# Altium integrated library Wuerth Elektronik EMC Ferrite.IntLib: 193 symbols (part 3 of 3)
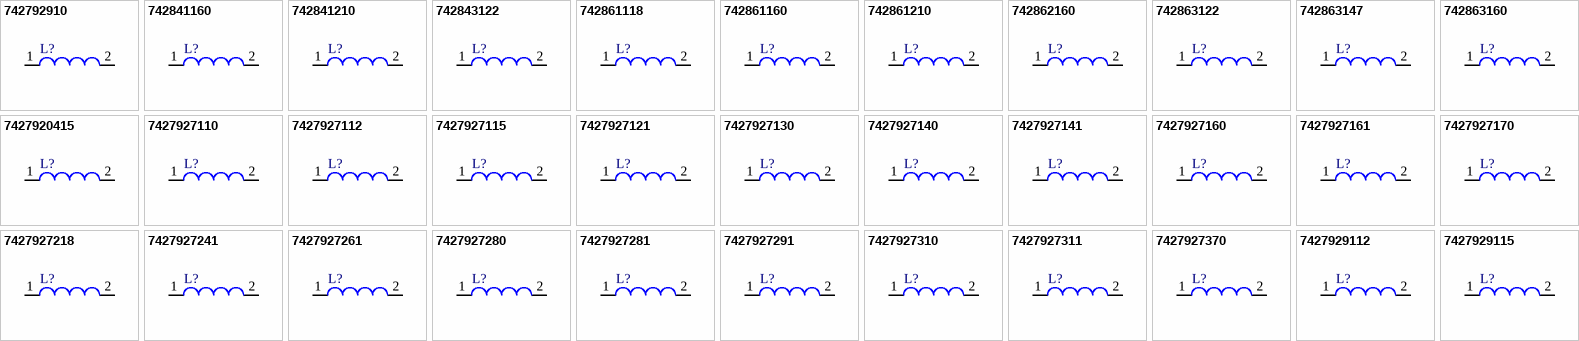
[diagram p6: symbols 742792910 to 7427929115]

## 7427927310
designator L?
SMD EMI Suppression Ferrite Bead WE-CBF, Z = 10 Ohm; Impedance: 10 Ohm; DatasheetVersion: ver 1, Jul-2009; PackageVersion: 2009; PackageReference: SMD-0402; PackageDescription: Chip Inductor, 2-Leads, Body 1.0 x 0.5 mm; ComponentLink1Description: Manufacturer URL; ComponentLink1URL: http://www.we-online.com; ComponentLink2Description: Datasheet; ComponentLink2URL: http://www.we-online.de/katalog/media/pdf/7427927310.pdf
footprint SMD-0402 (Chip Inductor, 2-Leads, Body 1.0x0.5x0.6 mm)
pins: 1, 2

## 7427927311
designator L?
SMD EMI Suppression Ferrite Bead WE-CBF, Z = 120 Ohm; Impedance: 120 Ohm; DatasheetVersion: ver 1, Jul-2009; PackageVersion: 2009; PackageReference: SMD-0402; PackageDescription: Chip Inductor, 2-Leads, Body 1.0 x 0.5 mm; ComponentLink1Description: Manufacturer URL; ComponentLink1URL: http://www.we-online.com; ComponentLink2Description: Datasheet; ComponentLink2URL: http://www.we-online.de/katalog/media/pdf/74279273120.pdf
footprint SMD-0402 (Chip Inductor, 2-Leads, Body 1.0x0.5x0.6 mm)
pins: 1, 2

## 7427927370
designator L?
SMD EMI Suppression Ferrite Bead WE-CBF, Z = 70 Ohm; Impedance: 70 Ohm; DatasheetVersion: ver 1, Jul-2009; PackageVersion: 2009; PackageReference: SMD-0402; PackageDescription: Chip Inductor, 2-Leads, Body 1.0 x 0.5 mm; ComponentLink1Description: Manufacturer URL; ComponentLink1URL: http://www.we-online.com; ComponentLink2Description: Datasheet; ComponentLink2URL: http://www.we-online.de/katalog/media/pdf/7427927370.pdf
footprint SMD-0402 (Chip Inductor, 2-Leads, Body 1.0x0.5x0.6 mm)
pins: 1, 2

## 7427929112
designator L?
SMD EMI Suppression Power Ferrite WE-PF, Z = 13000 Ohm; DatasheetVersion: ver 6, Apr-2007; PackageVersion: 2007; PackageReference: WE-PF; PackageDescription: Inductor, 2-Leads, Body 12.0 x 12.0 mm; Impedance: 13000 Ohm; ComponentLink1Description: Manufacturer URL; ComponentLink1URL: http://www.we-online.com; ComponentLink2Description: Datasheet; ComponentLink2URL: http://www.we-online.de/katalog/media/pdf/7427929112.pdf
footprint WE-PF (Inductor, 2-Leads, Body 12.0x12.0x8 mm)
pins: 1, 2

## 7427929115
designator L?
SMD EMI Suppression Power Ferrite WE-PF, Z = 15000 Ohm; DatasheetVersion: ver 6, Apr-2007; PackageVersion: 2007; PackageReference: WE-PF; PackageDescription: Inductor, 2-Leads, Body 12.0 x 12.0 mm; Impedance: 15000 Ohm; ComponentLink1Description: Manufacturer URL; ComponentLink1URL: http://www.we-online.com; ComponentLink2Description: Datasheet; ComponentLink2URL: http://www.we-online.de/katalog/media/pdf/7427929115.pdf
footprint WE-PF (Inductor, 2-Leads, Body 12.0x12.0x8 mm)
pins: 1, 2